# EAGLE library part RAK4260 (library RAK4260)
RAK4260 LoRaWAN module from RAKwireless.
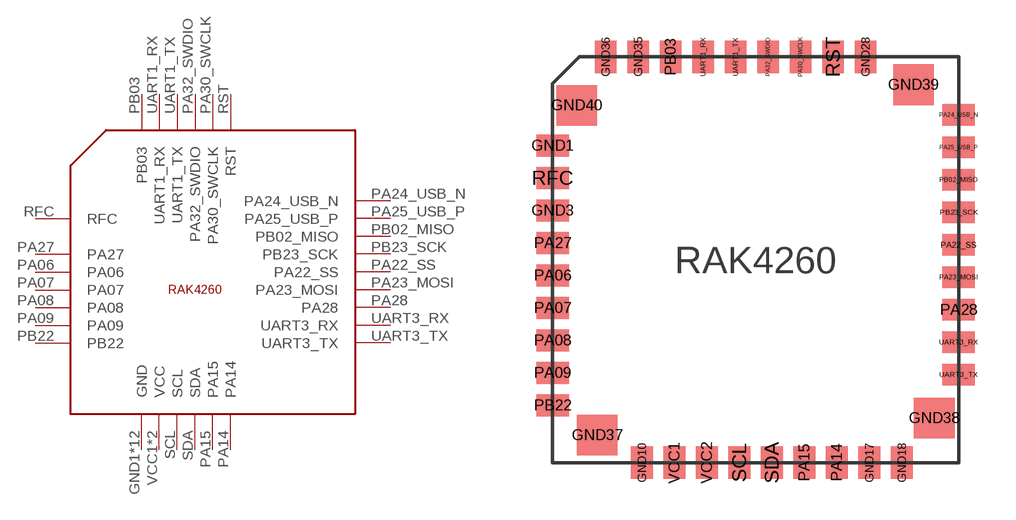
[diagram p0: symbol with the pads of RAK4260; footprint RAK4260]

Designator prefix -

## RAK4260  [RAK4260]
GND1  GND  sup
GND3  GND  sup
GND10  GND  sup
GND17  GND  sup
GND18  GND  sup
GND28  GND  sup
GND35  GND  sup
GND36  GND  sup
GND37  GND  sup
GND38  GND  sup
GND39  GND  sup
GND40  GND  sup
PA06  PA06
PA07  PA07
PA08  PA08
PA09  PA09
PA14  PA14
PA15  PA15
PA22_SS  PA22_SS
PA23_MOSI  PA23_MOSI
PA24_USB_N  PA24_USB_N
PA25_USB_P  PA25_USB_P
PA27  PA27
PA28  PA28  nc
PA30_SWCLK  PA30_SWCLK
PA32_SWDIO  PA32_SWDIO
PB02_MISO  PB02_MISO
PB03  PB03  nc
PB22  PB22  sup
PB23_SCK  PB23_SCK
RFC  RFC
RST  RST
SCL  SCL
SDA  SDA
UART1_RX  UART1_RX
UART1_TX  UART1_TX
UART3_RX  UART3_RX
UART3_TX  UART3_TX
VCC1  VCC  sup
VCC2  VCC  sup

## Footprint RAK4260 (pad centres in mm)
RAK4260 LoRaWAN module from RAKwireless.
smd 1.2 x 0.8: GND1 -7.5,4.22; GND3 -7.5,1.82; PA06 -7.5,-0.58; PA07 -7.5,-1.78; PA08 -7.5,-2.98; PA09 -7.5,-4.18; PA22_SS 7.5,0.55; PA23_MOSI 7.5,-0.65; PA24_USB_N 7.5,5.35; PA25_USB_P 7.5,4.15; PA27 -7.5,0.62; PA28 7.5,-1.85; PB02_MISO 7.5,2.95; PB22 -7.5,-5.38; PB23_SCK 7.5,1.75; RFC -7.5,3.02; UART3_RX 7.5,-3.05; UART3_TX 7.5,-4.25
smd 0.8 x 1.2: GND10 -4.2,-7.5; GND17 4.2,-7.5; GND18 5.4,-7.5; GND28 4.06,7.5; GND35 -4.34,7.5; GND36 -5.54,7.5; PA14 3,-7.5; PA15 1.8,-7.5; PA30_SWCLK 1.66,7.5; PA32_SWDIO 0.46,7.5; PB03 -3.14,7.5; RST 2.86,7.5; SCL -0.6,-7.5; SDA 0.6,-7.5; UART1_RX -1.94,7.5; UART1_TX -0.74,7.5; VCC1 -3,-7.5; VCC2 -1.8,-7.5
smd 1.5 x 1.5: GND37 -5.85,-6.48; GND38 6.6,-5.85; GND39 5.83,6.47; GND40 -6.61,5.71